# Altium footprint library Face_MainBack1V0.PcbLib: 26 footprints (part 2 of 2)
Each footprint in its own frame and in the unit in brackets; x right, y up, seen from the top. Pads: shape width x height; smd on the part's side, far side on the other; paste and mask are expansions set on the pad; w line width, h text height; cw(c..) or ccw(c..) is an arc to the next point about the centre after c.
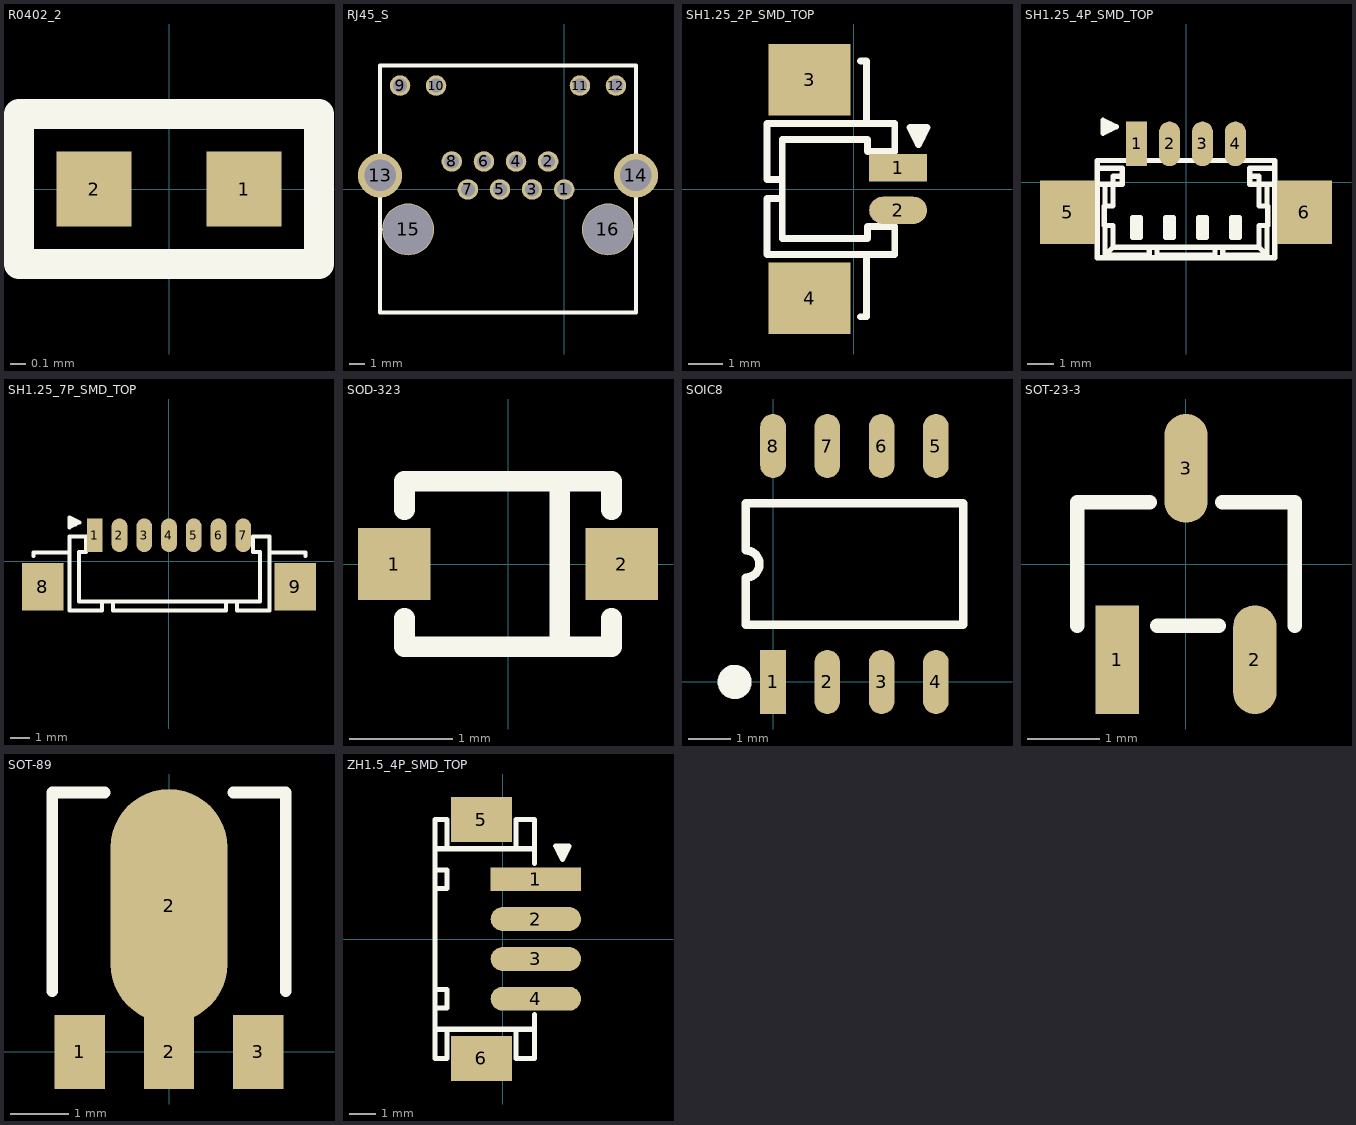
[diagram p1: the footprints below, top view; thin cyan lines are the x and y axes]

## R0402_2 [mm]
pads (2):
  rect 0.5x0.5 smd: 1(0.5,0) 2(-0.5,0)
Top Overlay:
  lines w0.2: -1,-0.5 -1,0.5 1,0.5 1,-0.5 -1,-0.5
3D body "User Library-R_0402.STEP": height 0.35, standoff 0, extent -0.5,-0.25 0.5,0.25

## RJ45_S [mm]
pads (16):
  round 1.3 hole 0.9: 1(0,0) 2(-1.02,1.78) 3(-2.04,0) 4(-3.06,1.78) 5(-4.08,0) 6(-5.1,1.78) 7(-6.12,0) 8(-7.14,1.78) 9(-10.43,6.6) 10(-8.14,6.6) 11(1,6.6) 12(3.29,6.6)
  round 2.8 hole 2: 13(-11.7,0.89) 14(4.56,0.89)
  round 3.3 hole 3.2: 15(-9.92,-2.54) 16(2.78,-2.54)
Top Overlay:
  lines w0.27: -11.7,-7.82 4.56,-7.82 4.56,7.88 -11.7,7.88 -11.7,-7.82

## SH1.25_2P_SMD_TOP [mm] "WAFER 1.25mm TOP ENTRY SMT"
height 4.7
pads (4):
  rect 1.7x0.8 smd mask+0.05: 1(1.3,0.625)
  oval 1.7x0.8 smd mask+0.05: 2(1.3,-0.625)
  rect 2.4x2.1 smd mask+0.05: 3(-1.3,3.2) 4(-1.3,-3.2)
Top Overlay:
  lines w0.2: -2.1,-0.275 -2.55,-0.275 -2.55,-1.925 1.2,-1.925 1.2,-1.1 0.4,-1.1 0.4,-1.45 -2.1,-1.45 -2.1,1.45 0.4,1.45 0.4,1.1 1.2,1.1 1.2,1.925 -2.55,1.925 -2.55,0.275 -2.1,0.275 ; 0.2,-3.75 0.375,-3.75 0.375,-1.925 ; 0.2,3.75 0.375,3.75 0.375,1.925 ; 1.8,1.5 1.8,1.8 ; 1.9,1.8 1.9,1.3 ; 2,1.5 2,1.8 ; 1.9,1.3 2.15,1.8 1.65,1.8 1.9,1.3
3D body "1.25 WTB HDR SMT, 2 POS.STEP": height 4.75, standoff 0, extent -2.55,-3.9 1.65,3.89

## SH1.25_4P_SMD_TOP [mm] "WTB 1.25MM WAFER TOP Entry"
pads (6):
  rect 0.8x1.7 smd mask+0.05: 1(-1.875,1.45)
  oval 0.8x1.7 smd mask+0.05: 2(-0.625,1.45) 3(0.625,1.45) 4(1.875,1.45)
  rect 2.1x2.4 smd mask+0.05: 5(-4.5,-1.15) 6(4.5,-1.15)
Top Overlay:
  lines w0.2: -3.375,0.52 -2.425,0.52 -2.425,-0.08 -3.35,-0.08 ; -3.15,2 -2.85,2 ; -3.15,2.1 -2.65,2.1 ; -3.15,2.2 -2.85,2.2 ; -3.075,-1.65 -3.075,-2.78 ; -3.075,-0.91 -3.075,-0.08 ; -2.425,0.22 -2.775,0.22 -2.775,-0.91 -3.105,-0.91 -3.105,-1.65 -2.775,-1.65 -2.775,-2.48 ; -1.945,-2 -1.945,-1.45 ; -1.805,-2 -1.805,-1.45 ; -1.4,-2.88 -1.4,-2.48 ; -1.4,-2.78 -3.075,-2.78 ; -1.1,-2.88 -1.1,-2.48 ; -1.1,-2.78 1.1,-2.78 ; -0.695,-2 -0.695,-1.45 ; -0.555,-2 -0.555,-1.45 ; 0.555,-2 0.555,-1.45 ; 0.695,-2 0.695,-1.45 ; 1.1,-2.88 1.1,-2.48 ; 1.4,-2.88 1.4,-2.48 ; 1.4,-2.78 3.075,-2.78 ; 1.805,-2 1.805,-1.45 ; 1.945,-2 1.945,-1.45 ; 2.425,0.22 2.775,0.22 2.775,-0.91 3.105,-0.91 3.105,-1.65 2.775,-1.65 2.775,-2.48 ; 3.075,-1.65 3.075,-2.78 ; 3.075,-0.91 3.075,-0.08 ; 3.375,-0.08 2.425,-0.08 2.425,0.52 3.375,0.52 ; -3.075,-2.78 -2.775,-2.48 ; -2.775,-2.48 2.775,-2.48 ; -2.65,2.1 -3.15,1.85 -3.15,2.35 -2.65,2.1 ; -2.025,-2.1 -1.725,-2.1 ; -2.025,-2.1 -2.025,-1.35 ; -2.025,-2.1 -1.981,-2 -1.769,-2 -1.725,-2.1 ; -2.025,-1.35 -1.725,-1.35 ; -2.025,-1.35 -1.981,-1.45 -1.769,-1.45 -1.725,-1.35 ; -1.725,-2.1 -1.725,-1.35 ; -0.775,-2.1 -0.475,-2.1 ; -0.775,-2.1 -0.775,-1.35 ; -0.775,-2.1 -0.731,-2 -0.519,-2 -0.475,-2.1 ; -0.775,-1.35 -0.475,-1.35 ; -0.775,-1.35 -0.731,-1.45 -0.519,-1.45 -0.475,-1.35 ; -0.475,-2.1 -0.475,-1.35 ; 0.475,-2.1 0.775,-2.1 ; 0.475,-2.1 0.475,-1.35 ; 0.475,-2.1 0.519,-2 0.731,-2 0.775,-2.1 ; 0.475,-1.35 0.775,-1.35 ; 0.475,-1.35 0.519,-1.45 0.731,-1.45 0.775,-1.35 ; 0.775,-2.1 0.775,-1.35 ; 1.725,-2.1 2.025,-2.1 ; 1.725,-2.1 1.725,-1.35 ; 1.725,-2.1 1.769,-2 1.981,-2 2.025,-2.1 ; 1.725,-1.35 2.025,-1.35 ; 1.725,-1.35 1.769,-1.45 1.981,-1.45 2.025,-1.35 ; 2.025,-2.1 2.025,-1.35 ; 2.775,-2.48 3.075,-2.78 ; -3.375,-2.88 3.375,-2.88 3.375,0.82 -3.375,0.82 -3.375,-2.88
3D body "10114828-XXX04LFc.STEP": height 4.65, standoff 0, extent -5.075,-2.83 5.075,1.4

## SH1.25_7P_SMD_TOP [mm] "WAFER 1.25mm TOP ENTRY SMT"
height 4.7
pads (9):
  rect 0.8x1.7 smd mask+0.05: 1(-3.75,1.3)
  oval 0.8x1.7 smd mask+0.05: 2(-2.5,1.3) 3(-1.25,1.3) 4(0,1.3) 5(1.25,1.3) 6(2.5,1.3) 7(3.75,1.3)
  rect 2.1x2.4 smd mask+0.05: 8(-6.375,-1.3) 9(6.375,-1.3)
Top Overlay:
  lines w0.2: -6.85,0.25 -6.85,0.425 -5.025,0.425 ; -5.025,1.85 -4.725,1.85 ; -5.025,1.95 -4.525,1.95 ; -5.025,2.05 -4.725,2.05 ; -4.225,1.25 -5.025,1.25 -5.025,-2.5 -3.375,-2.5 ; -4.2,1.25 -4.2,0.45 -4.55,0.45 -4.55,-2.05 3.425,-2.05 ; -3.375,-2.5 -3.375,-2.05 ; -2.825,-2.05 -2.825,-2.5 2.875,-2.5 2.875,-2.05 ; 4.25,1.25 4.25,0.45 4.6,0.45 4.6,-2.05 3.425,-2.05 ; 4.275,1.25 5.075,1.25 5.075,-2.5 3.425,-2.5 3.425,-2.05 ; 5.075,0.425 6.9,0.425 6.9,0.25 ; -4.525,1.95 -5.025,2.2 -5.025,1.7 -4.525,1.95
3D body "10114828-xxx07lfc.stp": height 4.65, standoff 0, extent -6.95,-2.5 6.95,1.73

## SOD-323 [mm]
pads (2):
  rect 0.7x0.7 smd: 1(-1.1,0) 2(1.1,0)
Top Overlay:
  lines w0.2: -1,-0.524 -1,-0.8 1,-0.8 1,-0.524 ; -1,0.524 -1,0.8 1,0.8 1,0.524 ; 0.5,-0.7 0.5,0.7
3D body "User Library-SOD-323-1.STEP": height 1.01, standoff -0.12, extent -1.411,-0.65 1.411,0.65

## SOIC8 [mm]
pads (8):
  rect 0.6x1.5 smd: 1(0,0)
  oval 0.6x1.5 smd: 2(1.27,0) 3(2.54,0) 4(3.81,0) 5(3.81,5.52) 6(2.54,5.52) 7(1.27,5.52) 8(0,5.52)
Top Overlay:
  circle w0.4: c-0.9,0 r0.2
  lines w0.2: -0.635,1.335 -0.635,2.442 ccw(c-0.635,2.76) -0.635,3.077 -0.635,4.185 4.445,4.185 4.445,1.335 -0.635,1.335
3D body "User Library-SOIC-8-1.STEP": height 1.75, standoff 0, extent -0.53,-0.24 4.37,5.76

## SOT-23-3 [mm]
pads (3):
  rect 0.6x1.5 smd mask+0.05: 1(-0.95,-1.32)
  oval 0.6x1.5 smd mask+0.05: 2(0.95,-1.32) 3(0,1.32)
Top Overlay:
  lines w0.2: -0.5,0.85 -1.5,0.85 ; -0.4,-0.85 0.45,-0.85 ; 0.5,0.85 1.5,0.85 ; -1.5,0.85 -1.5,-0.85 -1.5,0.85 ; 1.5,0.85 1.5,-0.85 1.5,0.85
3D body "User Library-SOT23-3.STEP": height 1.3, standoff 0, extent -1.44,-1.44 1.46,1.36

## SOT-89 [mil]
pads (4):
  rect 34x50 smd: 1(-60,0) 2(0,0) 3(60,0)
  oval 78.74x157.48 smd: 2(0,98.43)
Top Overlay:
  lines w7.87: -78.74,40.94 -78.74,174.8 -43.31,174.8 ; 43.31,174.8 78.74,174.8 78.74,40.94
3D body "SW3dPS-SOT89.STEP": height 70.44, standoff 7.12, extent -89.94,-10.93 91.16,156.4

## ZH1.5_4P_SMD_TOP [mm] "WAFER 1.5mm TOP ENTRY SMT"
height 5
pads (6):
  rect 3.4x0.9 smd mask+0.05: 1(1.25,2.25)
  oval 3.4x0.9 smd mask+0.05: 2(1.25,0.75) 3(1.25,-0.75) 4(1.25,-2.25)
  rect 2.3x1.7 smd mask+0.05: 5(-0.8,4.5) 6(-0.8,-4.5)
Top Overlay:
  lines w0.2: -2.55,-3.4 -2.1,-3.4 ; -2.55,-2.6 -2.1,-2.6 -2.1,-1.9 -2.55,-1.9 ; -2.55,1.9 -2.1,1.9 -2.1,2.6 -2.55,2.6 ; -2.55,3.4 -2.1,3.4 ; 1.2,-3.4 0.5,-3.4 ; 1.2,-2.85 1.2,-4.5 0.5,-4.5 0.5,-3.4 ; 1.2,2.85 1.2,4.5 0.5,4.5 0.5,3.4 ; 1.2,3.4 0.5,3.4 ; 2.15,3.2 2.15,3.5 ; 2.25,3.5 2.25,3 ; 2.35,3.2 2.35,3.5 ; -2.1,-3.4 0.5,-3.4 ; -2.1,-3.4 -2.1,-4.5 -2.55,-4.5 -2.55,4.5 -2.1,4.5 -2.1,3.4 ; -2.1,3.4 0.5,3.4 ; 2.25,3 2,3.5 2.5,3.5 2.25,3
3D body "con4.STEP": height 4.88, standoff -0.14, extent -2.55,-4.5 2.345,4.5